# Altium schematic symbol library WP-BUFU.SchLib: 7 symbols
Pins are listed as number, name and electrical type; pins without a type are passive.

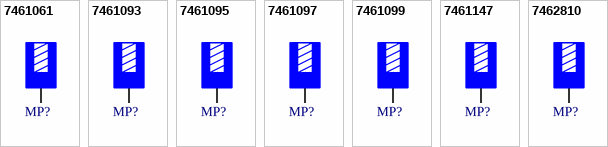
[diagram p0: symbols 7461061 to 7462810]

## 7461061
designator MP?, comment M10 x 11mm  (value not drawn)
WP-BUFU REDCUBE PRESS-FIT with internal thread, full plain, L16W16H17.5mm, M10 x 11mm, 350A; Manufacturer Part Number: 7461061; Manufacturer: Wurth Elektronik; Surface: Tin; ComponentLink1Description: Website Link; ComponentLink1URL: https://www.we-online.com/redexpert/article/7461061?ad; ComponentLink2Description: Datasheet Link; ComponentLink2URL: https://www.we-online.com/redexpert/spec/7461061?ad; Category: REDCUBE PRESS-FIT; Match Code: WP-BUFU; Mount: Press Fit; Operating Temperature Max: 150°C; Operating Temperature Min: -55°C; Packaging: Bulk; Length: 16mm; Width: 16mm; Height: 17.5mm; Material: Brass; Number of Pins: 36; Rated Current: 350A; Thread Length: 11mm; Thread Size: M10
footprint 7461061_chemical surface
footprint 7461061_HAL
pins: 1

## 7461093
designator MP?, comment M3 x 3.5mm  (value not drawn)
WP-BUFU REDCUBE PRESS-FIT with internal thread, full plain, L7W7H6mm, M3 x 3.5mm, 130A; Manufacturer Part Number: 7461093; Manufacturer: Wurth Elektronik; Surface: Tin; ComponentLink1Description: Website Link; ComponentLink1URL: https://www.we-online.com/redexpert/article/7461093?ad; ComponentLink2Description: Datasheet Link; ComponentLink2URL: https://www.we-online.com/redexpert/spec/7461093?ad; Category: REDCUBE PRESS-FIT; Match Code: WP-BUFU; Mount: Press Fit; Operating Temperature Max: 150°C; Operating Temperature Min: -55°C; Packaging: Bulk; Length: 7mm; Width: 7mm; Height: 6mm; Material: Brass; Number of Pins: 9; Rated Current: 130A; Thread Length: 3.5mm; Thread Size: M3
footprint 7461093_chemical surface
footprint 7461093_HAL
pins: 1

## 7461095
designator MP?, comment M4 x 4mm  (value not drawn)
WP-BUFU REDCUBE PRESS-FIT with internal thread, full plain, L9W9H7mm, M4 x 4mm, 180A; Manufacturer Part Number: 7461095; Manufacturer: Wurth Elektronik; Surface: Tin; ComponentLink1Description: Website Link; ComponentLink1URL: https://www.we-online.com/redexpert/article/7461095?ad; ComponentLink2Description: Datasheet Link; ComponentLink2URL: https://www.we-online.com/redexpert/spec/7461095?ad; Category: REDCUBE PRESS-FIT; Match Code: WP-BUFU; Mount: Press Fit; Operating Temperature Max: 150°C; Operating Temperature Min: -55°C; Packaging: Bulk; Length: 9mm; Width: 9mm; Height: 7mm; Material: Brass; Number of Pins: 16; Rated Current: 180A; Thread Length: 4mm; Thread Size: M4
footprint 7461095_chemical surface
footprint 7461095_HAL
pins: 1

## 7461097
designator MP?, comment M6 x 6mm  (value not drawn)
WP-BUFU REDCUBE PRESS-FIT with internal thread, full plain, L10W10H10.5mm, M6 x 6mm, 180A; Manufacturer Part Number: 7461097; Manufacturer: Wurth Elektronik; Surface: Tin; ComponentLink1Description: Website Link; ComponentLink1URL: https://www.we-online.com/redexpert/article/7461097?ad; ComponentLink2Description: Datasheet Link; ComponentLink2URL: https://www.we-online.com/redexpert/spec/7461097?ad; Category: REDCUBE PRESS-FIT; Match Code: WP-BUFU; Mount: Press Fit; Operating Temperature Max: 150°C; Operating Temperature Min: -55°C; Packaging: Bulk; Length: 10mm; Width: 10mm; Height: 10.5mm; Material: Brass; Number of Pins: 16; Rated Current: 180A; Thread Length: 6mm; Thread Size: M6
footprint 7461097_chemical surface
footprint 7461097_HAL
pins: 1

## 7461099
designator MP?, comment M8 x 8mm  (value not drawn)
WP-BUFU REDCUBE PRESS-FIT with internal thread, full plain, L13W13H13.5mm, M8 x 8mm, 250A; Manufacturer Part Number: 7461099; Manufacturer: Wurth Elektronik; Surface: Tin; ComponentLink1Description: Website Link; ComponentLink1URL: https://www.we-online.com/redexpert/article/7461099?ad; ComponentLink2Description: Datasheet Link; ComponentLink2URL: https://www.we-online.com/redexpert/spec/7461099?ad; Category: REDCUBE PRESS-FIT; Match Code: WP-BUFU; Mount: Press Fit; Operating Temperature Max: 150°C; Operating Temperature Min: -55°C; Packaging: Bulk; Length: 13mm; Width: 13mm; Height: 13.5mm; Material: Brass; Number of Pins: 25; Rated Current: 250A; Thread Length: 8mm; Thread Size: M8
footprint 7461099_chemical surface
footprint 7461099_HAL
pins: 1

## 7461147
designator MP?, comment M5 x 4mm  (value not drawn)
WP-BUFU REDCUBE PRESS-FIT with internal thread, full plain, L9W9H7mm, M5 x 4mm, 180A; Manufacturer Part Number: 7461147; Manufacturer: Wurth Elektronik; Surface: Tin; ComponentLink1Description: Website Link; ComponentLink1URL: https://www.we-online.com/redexpert/article/7461147?ad; ComponentLink2Description: Datasheet Link; ComponentLink2URL: https://www.we-online.com/redexpert/spec/7461147?ad; Category: REDCUBE PRESS-FIT; Match Code: WP-BUFU; Mount: Press Fit; Operating Temperature Max: 150°C; Operating Temperature Min: -55°C; Packaging: Bulk; Length: 9mm; Width: 9mm; Height: 7mm; Material: Brass; Number of Pins: 16; Rated Current: 180A; Thread Length: 4mm; Thread Size: M5
footprint 7461147_chemical surface
footprint 7461147_HAL
pins: 1

## 7462810
designator MP?, comment M3 x 4mm  (value not drawn)
WP-BUFU REDCUBE PRESS-FIT with internal thread, full plain, L5W5H7mm, M3 x 4mm, 70A; Manufacturer Part Number: 7462810; Manufacturer: Wurth Elektronik; Surface: Tin; ComponentLink1Description: Website Link; ComponentLink1URL: https://www.we-online.com/redexpert/article/7462810?ad; ComponentLink2Description: Datasheet Link; ComponentLink2URL: https://www.we-online.com/redexpert/spec/7462810?ad; Category: REDCUBE PRESS-FIT; Match Code: WP-BUFU; Mount: Press Fit; Operating Temperature Max: 150°C; Operating Temperature Min: -55°C; Packaging: Bulk; Length: 5mm; Width: 5mm; Height: 7mm; Material: Brass; Number of Pins: 4; Rated Current: 70A; Thread Length: 4mm; Thread Size: M3
footprint 7462810_chemical surface
footprint 7462810_HAL
pins: 1